# Altium footprint library PcbLib1.PcbLib: 25 footprints (part 1 of 2)
Each footprint in its own frame and in the unit in brackets; x right, y up, seen from the top. Pads: shape width x height; smd on the part's side, far side on the other; paste and mask are expansions set on the pad; w line width, h text height; cw(c..) or ccw(c..) is an arc to the next point about the centre after c.
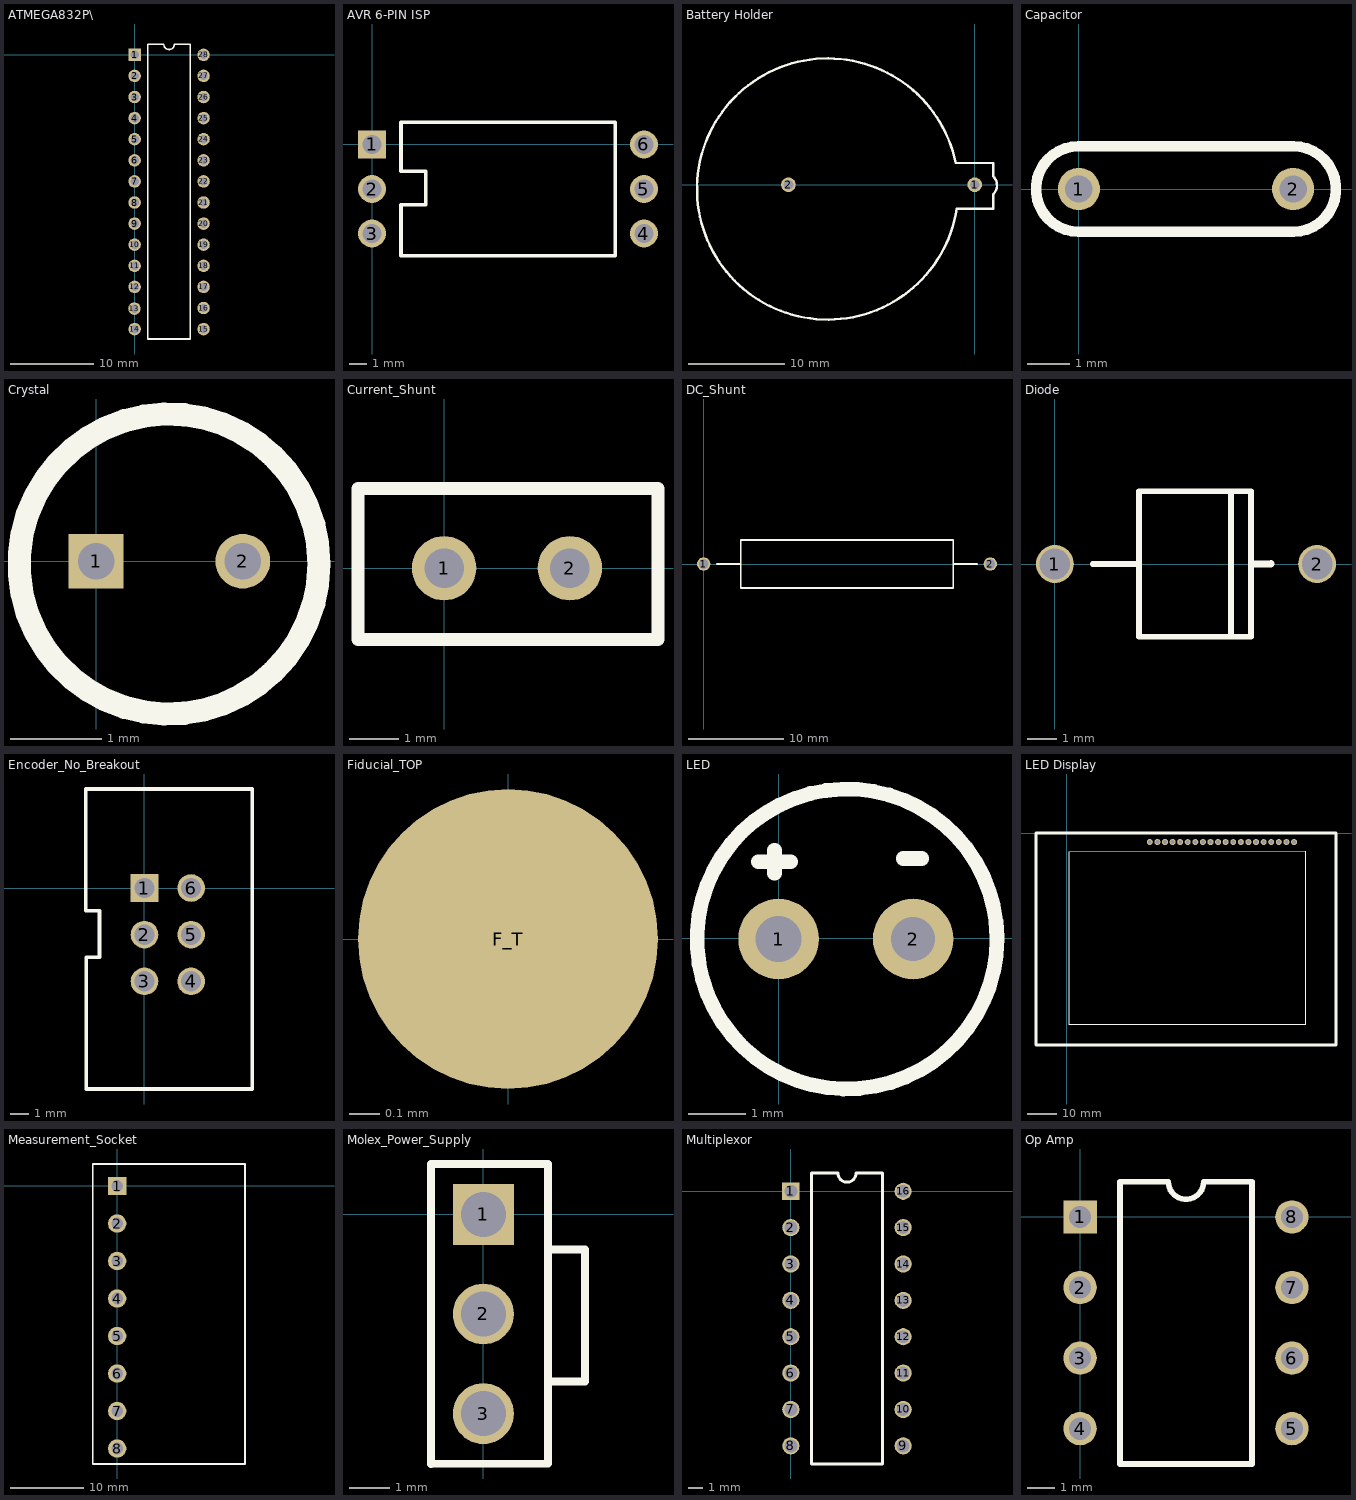
[diagram p0: the footprints below, top view; thin cyan lines are the x and y axes]

## ATMEGA832P\ [mm]
pads (28):
  rect 1.5x1.5 hole 1: 1(0,0)
  round 1.5 hole 1: 2(0,-2.54) 3(0,-5.08) 4(0,-7.62) 5(0,-10.16) 6(0,-12.7) 7(0,-15.24) 8(0,-17.78) 9(0,-20.32) 10(0,-22.86) 11(0,-25.4) 12(0,-27.94) 13(-0.02,-30.55) 14(0,-33.02) 15(8.3,-33.02) 16(8.3,-30.48) 17(8.3,-27.94) 18(8.3,-25.4) 19(8.3,-22.86) 20(8.3,-20.32) 21(8.3,-17.78) 22(8.3,-15.24) 23(8.3,-12.7) 24(8.3,-10.16) 25(8.3,-7.62) 26(8.3,-5.08) 27(8.3,-2.54) 28(8.3,0)
Top Overlay:
  lines w0.2: 1.585,-34.21 6.715,-34.21 6.715,1.27 4.785,1.27 cw(c4.15,1.27) 3.515,1.27 1.585,1.27 1.585,-34.21

## AVR 6-PIN ISP [mm]
pads (6):
  rect 1.6x1.6 hole 1.1: 1(0,0)
  round 1.6 hole 1.1: 2(0,-2.54) 3(0,-5.08) 4(15.5,-5.08) 5(15.5,-2.54) 6(15.5,0)
Top Overlay:
  lines w0.2: 1.635,-6.35 13.865,-6.35 13.865,1.27 8.385,1.27 ; 1.651,-6.35 1.651,-3.429 3.048,-3.429 3.048,-1.524 1.651,-1.524 1.651,1.27 7.115,1.27 ; 7.112,1.27 8.382,1.27

## Battery Holder [mil]
pads (2):
  round 60 hole 39.37: 1(0,0) 2(-764.17,0)
Top Overlay:
  lines w10: -78.44,88.87 ccw(c-603.54,-17.72) -73.78,-97.96 76.38,-97.96 76.38,-38.58 ccw(c39.46,-2.17) 75.88,34.75 75.88,88.87 -78.44,88.87

## Capacitor [mm]
pads (2):
  round 1 hole 0.65: 1(0,0) 2(5.08,0)
Top Overlay:
  lines w0.254: 0,-1.016 cw(c0,0) 0,1.016 5.08,1.016 cw(c5.08,0) 5.08,-1.016 0,-1.016

## Crystal [mm]
pads (2):
  rect 0.6x0.6 hole 0.4: 1(0,0)
  round 0.6 hole 0.4: 2(1.61,0)
Top Overlay:
  circle w0.254: c0.8,-0.03 r1.645

## Current_Shunt [mm]
pads (2):
  round 1.3 hole 0.8: 1(0,0) 2(2.54,0)
Top Overlay:
  lines w0.254: -1.74,-1.44 -1.74,1.61 4.32,1.61 4.32,-1.44 -1.74,-1.44

## DC_Shunt [mm]
pads (2):
  round 1.4 hole 1: 1(0,0) 2(30,0)
Top Overlay:
  lines w0.2: 1.4,0 3.875,0 ; 26.125,0 28.6,0 ; 3.875,0 3.875,2.5 26.125,2.5 26.125,-2.5 3.875,-2.5 3.875,0

## Diode [mm]
pads (2):
  round 1.3 hole 1.05: 1(0,0) 2(9,0)
Top Overlay:
  lines w0.2: 1.3,0 2.89,0 2.89,2.5 6.73,2.5 6.73,-2.5 2.89,-2.5 2.89,0.935 ; 6.04,-2.5 6.04,2.5
  lines w0.254: 6.77,0 7.42,0.01

## Encoder_No_Breakout [mm]
pads (6):
  rect 1.5x1.5 hole 1.1: 1(0,0)
  round 1.5 hole 1.1: 2(0,-2.54) 3(0,-5.08) 4(2.54,-5.08) 5(2.54,-2.54) 6(2.54,0)
Top Overlay:
  lines w0.2: -3.19,-1.23 -3.19,1.56 -3.19,5.39 0.855,5.39 5.86,5.39 5.86,-10.94 0.25,-10.94 -1.045,-10.94 -3.17,-10.94 -3.17,-9.26 -3.17,-6.08 -3.17,-3.77 -2.45,-3.77 -2.45,-1.23 -3.19,-1.23

## Fiducial_TOP [mm]
pads (1):
  round 1 / inner round 2 / far side round 0 all layers, no hole mask+1: F_T(0,0)

## LED [mm]
pads (2):
  round 1.4 hole 0.8: 1(0,-0.01)
  round 1.4 hole 0.762: 2(2.34,-0.01)
Top Overlay:
  lines w0.254: -0.35,1.33 0.21,1.33 ; -0.07,1.13 -0.07,1.53 ; 2.17,1.39 2.49,1.39 ; 3.797,-0.01 cw(c1.19,-0.01) 3.797,0.017

## LED Display [mm]
pads (20):
  round 2 hole 1.25: 1(76,-3) 2(73.45,-3) 3(70.9,-3) 4(68.36,-3) 5(65.84,-3) 6(63.28,-3) 7(60.75,-3) 8(58.2,-3) 9(55.66,-3) 10(53.12,-3) 11(50.58,-3) 12(48.04,-3) 13(45.5,-3) 14(42.96,-3) 15(40.42,-3) 16(37.89,-3) 17(35.35,-2.99) 18(32.82,-2.99) 19(30.28,-2.99) 20(27.74,-2.99)
Top Layer:
  lines w0.254: 79.908,-6.071 79.985,-6.147
Top Overlay:
  lines w0.254: 0.603,-6.169 0.628,-63.906 79.985,-63.906 79.985,-6.054 0.603,-6.169
  lines w1: -10.35,-70.891 -10.35,0 90.043,0 90.043,-70.891 -10.35,-70.891

## Measurement_Socket [mm]
pads (8):
  rect 2.5x2.5 hole 1.6: 1(0,-0.05)
  round 2.5 hole 1.6: 2(0,-5.15) 3(0,-10.25) 4(0,-15.35) 5(0,-20.45) 6(0,-25.55) 7(0,-30.65) 8(0,-35.75)
Top Overlay:
  lines w0.2: -3.3,-37.85 -3.3,2.95
  lines w0.254: -3.3,-37.85 17.4,-37.85 17.4,2.95 -3.3,2.95

## Molex_Power_Supply [mm]
pads (3):
  rect 1.5x1.5 hole 1.1: 1(0,0)
  round 1.5 hole 1.1: 2(0,-2.45) 3(0,-4.9)
Top Overlay:
  lines w0.2: 1.6,-4.11 2.5,-4.11 2.5,-0.86 1.63,-0.86 ; -1.29,-6.14 1.585,-6.125 1.585,1.24 -1.29,1.24 -1.29,-6.14

## Multiplexor [mm]
pads (16):
  rect 1.2x1.2 hole 0.9: 1(0,0)
  round 1.2 hole 0.9: 2(0,-2.54) 3(0,-5.08) 4(0,-7.62) 5(0,-10.16) 6(0,-12.7) 7(0,-15.24) 8(0,-17.78) 9(7.85,-17.78) 10(7.85,-15.24) 11(7.85,-12.7) 12(7.85,-10.16) 13(7.85,-7.62) 14(7.85,-5.08) 15(7.85,-2.54) 16(7.85,0)
Top Overlay:
  lines w0.2: 1.435,-19.05 6.415,-19.05 6.415,1.27 4.56,1.27 cw(c3.925,1.27) 3.29,1.27 1.435,1.27 1.435,-19.05

## Op Amp [mm]
pads (8):
  rect 1.2x1.2 hole 0.8: 1(0,0)
  round 1.2 hole 0.8: 2(0,-2.54) 3(0,-5.08) 4(0,-7.62) 5(7.62,-7.62) 6(7.62,-5.08) 7(7.62,-2.54) 8(7.62,0)
Top Overlay:
  lines w0.2: 1.435,-8.89 6.185,-8.89 6.185,1.27 4.445,1.27 cw(c3.81,1.27) 3.175,1.27 1.435,1.27 1.435,-8.89